# Altium footprint library blandat.PcbLib: 22 footprints (part 2 of 2)
Each footprint in its own frame and in the unit in brackets; x right, y up, seen from the top. Pads: shape width x height; smd on the part's side, far side on the other; paste and mask are expansions set on the pad; w line width, h text height; cw(c..) or ccw(c..) is an arc to the next point about the centre after c.
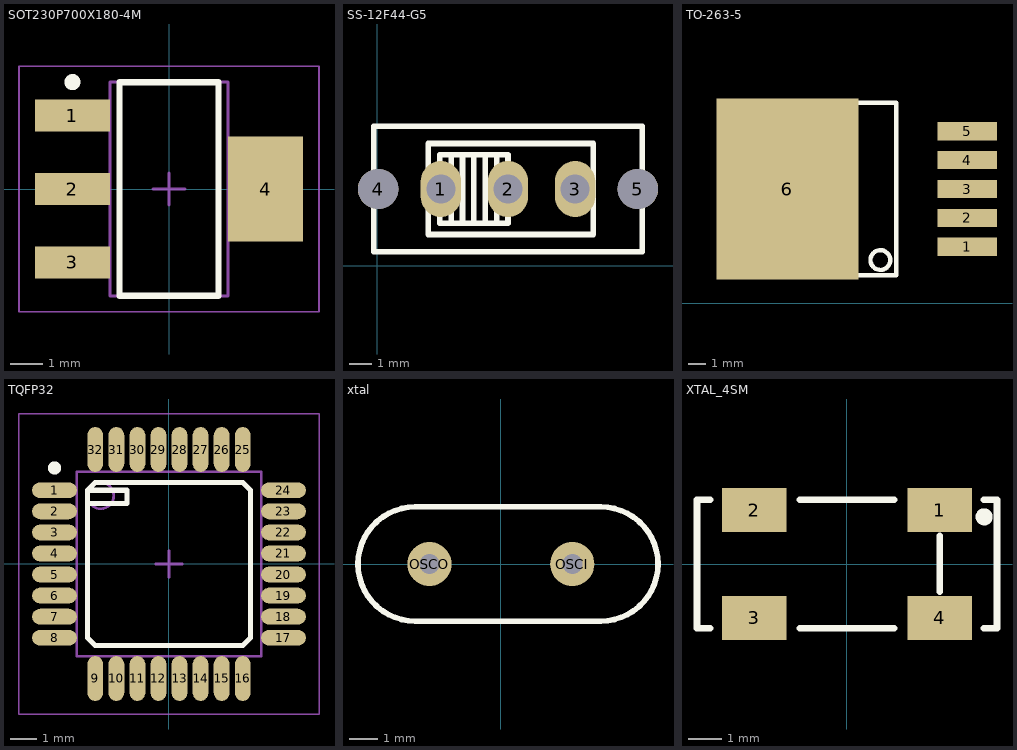
[diagram p1: the footprints below, top view; thin cyan lines are the x and y axes]

## SOT230P700X180-4M [mm] "SOT223, 4-Leads, Body 6,50x7,00mm (avg), Pitch 2,30mm, IPC Low Density"
height 1.8
pads (4):
  rect 2.35x1 smd: 1(-3.025,2.3) 2(-3.025,0) 3(-3.025,-2.3)
  rect 2.35x3.3 smd: 4(3.025,0)
Top Overlay:
  circle w0.25: c-3.025,3.35 r0.125
  lines w0.2: -1.55,-3.35 -1.55,3.35 1.55,3.35 1.55,-3.35 -1.55,-3.35
Mechanical 13:
  lines w0.1: -1.85,-3.35 -1.85,3.35 1.85,3.35 1.85,-3.35 -1.85,-3.35
Mechanical 15:
  lines w0.05: -4.7,-3.85 -4.7,3.85 4.7,3.85 4.7,-3.85 -4.7,-3.85
  lines w0.1: -0.5,0 0.5,0 ; 0,-0.5 0,0.5
3D body "SOT230P700X180-4M.step": height 1.8, standoff 0, extent -3.5,-3.35 3.5,3.35

## SS-12F44-G5 [mm]
pads (5):
  oval 1.8x2.5 hole 1.3: 1(2.842,3.429) 2(5.842,3.429) 3(8.842,3.429)
  round 1.8 hole 1.8 unplated: 4(0.042,3.429) 5(11.642,3.429)
Top Overlay:
  lines w0.254: 3.302,1.905 3.302,4.953 ; 3.81,1.905 3.81,4.953 ; 4.318,1.905 4.318,4.953 ; 4.826,1.905 4.826,4.953 ; 5.334,1.905 5.334,4.953 ; -0.158,0.629 11.842,0.629 11.842,6.229 -0.158,6.229 -0.158,0.629 ; 2.286,1.397 9.652,1.397 9.652,5.461 2.286,5.461 2.286,1.397 ; 2.794,1.905 5.842,1.905 5.842,4.953 2.794,4.953 2.794,1.905
Mechanical 15:
  lines w0.003: 5.944,3.531 5.994,3.581

## TO-263-5 [mm] "lm2596s"
pads (6):
  rect 3.5x1.069 smd: 1(17.093,3.323) 2(17.093,5.025) 3(17.093,6.727) 4(17.093,8.429) 5(17.093,10.131)
  rect 8.38x10.66 smd: 6(6.476,6.727)
Top Overlay:
  circle w0.254: c11.962,2.536 r0.584
  lines w0.254: 4.444,1.647 12.902,1.647 12.902,11.807 4.444,11.807
Mechanical 15:
  lines w0.003: 10.539,7.367 10.59,7.418

## TQFP32 [mm] "CQFP, 32-Leads, Body 9,00x9,00mm, Pitch 0,80mm, IPC Low Density"
height 1.2
pads (32):
  oval 1.7x0.6 smd: 1(-4.35,2.8) 2(-4.35,2) 3(-4.35,1.2) 4(-4.35,0.4) 5(-4.35,-0.4) 6(-4.35,-1.2) 7(-4.35,-2) 8(-4.35,-2.8) 17(4.35,-2.8) 18(4.35,-2) 19(4.35,-1.2) 20(4.35,-0.4) 21(4.35,0.4) 22(4.35,1.2) 23(4.35,2) 24(4.35,2.8)
  oval 0.6x1.7 smd: 9(-2.8,-4.35) 10(-2,-4.35) 11(-1.2,-4.35) 12(-0.4,-4.35) 13(0.4,-4.35) 14(1.2,-4.35) 15(2,-4.35) 16(2.8,-4.35) 25(2.8,4.35) 26(2,4.35) 27(1.2,4.35) 28(0.4,4.35) 29(-0.4,4.35) 30(-1.2,4.35) 31(-2,4.35) 32(-2.8,4.35)
Top Overlay:
  circle w0.25: c-4.35,3.65 r0.125
  lines w0.2: -3.1,2.3 -1.6,2.3 -1.6,2.8 -3.1,2.8 ; -3.1,2.8 -2.8,3.1 2.8,3.1 3.1,2.8 3.1,-2.8 2.8,-3.1 -2.8,-3.1 -3.1,-2.8 -3.1,2.8
Mechanical 13:
  circle w0.1: c-2.6,2.6 r0.5
  lines w0.1: -3.5,-3.5 3.5,-3.5 3.5,3.5 -3.5,3.5 -3.5,-3.5
Mechanical 15:
  lines w0.05: -5.7,-5.7 5.7,-5.7 5.7,5.7 -5.7,5.7 -5.7,-5.7
  lines w0.1: -0.5,0 0.5,0 ; 0,-0.5 0,0.5
3D body "TQFP32.step": height 1.15, standoff 0, extent -4.625,-4.625 4.625,4.625

## xtal [mil]
pads (2):
  round 62 hole 28: OSCI(100,0) OSCO(-100,0)
Top Overlay:
  lines w7.87: -120,-80 cw(c-120,0) -120,80 140,80 cw(c140,0) 140,-80 -120,-80

## XTAL_4SM [mm]
pads (4):
  rect 1.9x1.3 smd: 1(2.75,1.6) 2(-2.75,1.6) 3(-2.75,-1.6) 4(2.75,-1.6)
Top Overlay:
  circle w0.254: c4.064,1.397 r0.127
  lines w0.203: -4.064,-1.905 -4.445,-1.905 -4.445,-1.651 -4.445,1.651 -4.445,1.905 -4.064,1.905 ; -1.397,-1.905 1.397,-1.905 ; -1.397,1.905 1.397,1.905 ; 2.75,-0.813 2.75,0.838 ; 4.064,-1.905 4.445,-1.905 4.445,1.905 4.064,1.905